# Altium footprint library EL-TCaseA1206(3216-18).PcbLib: 1 footprints
Each footprint in its own frame and in the unit in brackets; x right, y up, seen from the top. Pads: shape width x height; smd on the part's side, far side on the other; paste and mask are expansions set on the pad; w line width, h text height; cw(c..) or ccw(c..) is an arc to the next point about the centre after c.
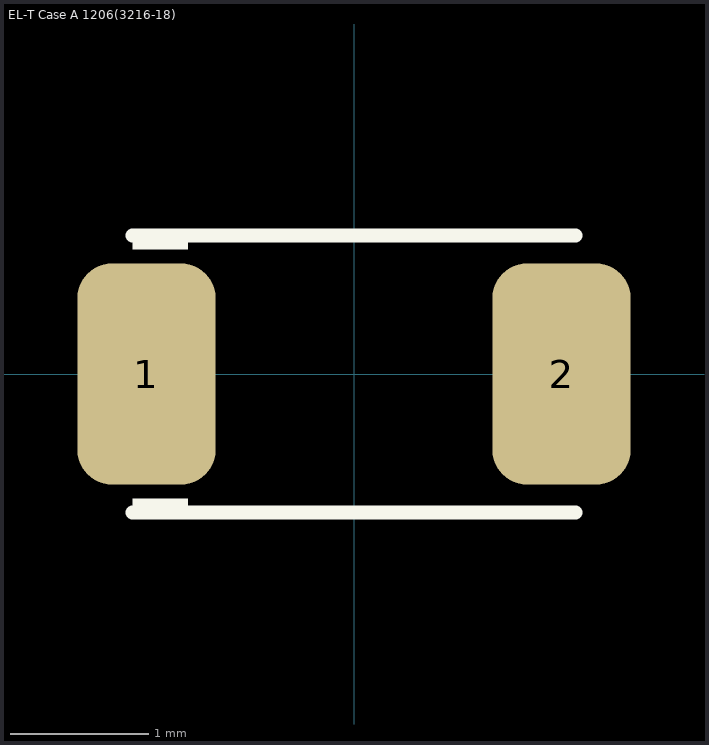
[diagram p0: the footprint, top view; thin cyan lines are the x and y axes]

## EL-T Case A 1206(3216-18) [mm] "Capacitor, SM Tantalum; Body 3.2 x 1.8 mm (LxW typ)"
height 1.8
pads (2):
  rrect50% 1x1.6 smd: 1(-1.5,0) 2(1.5,0)
Top Overlay:
  rectangle: -1.6,-1 -1.2,-0.9
  rectangle: -1.6,0.9 -1.2,1
  lines w0.1: -1.6,-1 1.6,-1 ; -1.6,1 1.6,1
3D body "EL-T SMD Case A 1206(3216-1.8).STEP": height 1.61, standoff 0, extent -1.595,-0.8 1.595,0.8